# Altium footprint library MODULE_MISC.PcbLib: 36 footprints (part 3 of 3)
Each footprint in its own frame and in the unit in brackets; x right, y up, seen from the top. Pads: shape width x height; smd on the part's side, far side on the other; paste and mask are expansions set on the pad; w line width, h text height; cw(c..) or ccw(c..) is an arc to the next point about the centre after c.
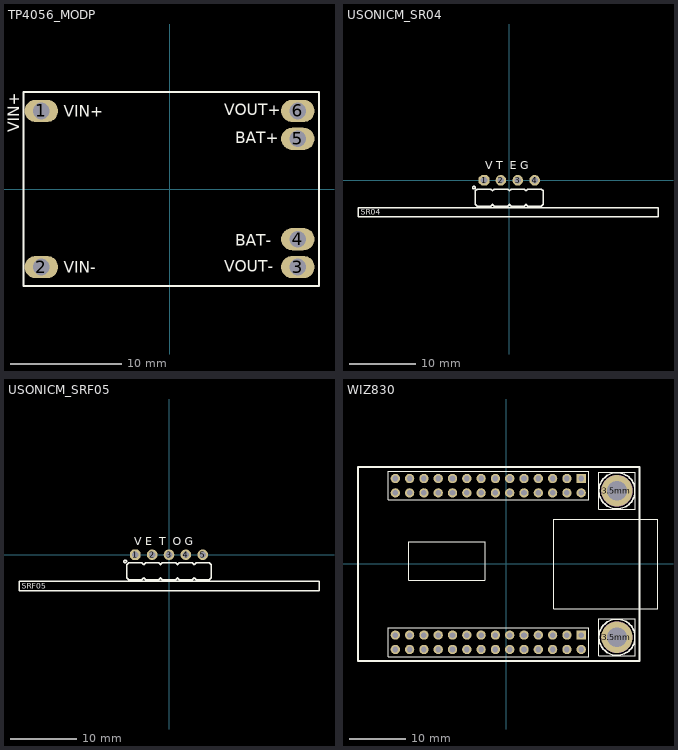
[diagram p2: the footprints below, top view; thin cyan lines are the x and y axes]

## TP4056_MODP [mm] "TP4056 MODULE+"
pads (6):
  oval 3x2 hole 1.5: 1(-11.5,7) 2(-11.5,-7) 3(11.5,-7) 4(11.5,-4.5) 5(11.5,4.5) 6(11.5,7)
Top Overlay:
  lines w0.2: -13.1,-8.7 -13.1,8.7 13.4,8.7 13.4,-8.7 -13.1,-8.7
  text "VIN+" at -13.5,5.1 h1
  text "VOUT-" at 4.9,-7.4 h1
  text "VOUT+" at 4.9,6.6 h1
  text "BAT-" at 5.9,-5.1 h1
  text "BAT+" at 5.9,4.1 h1
  text "VIN+" at -9.5,6.5 h1
  text "VIN-" at -9.5,-7.5 h1
3D body "TP4056.STEP": height 5.95, standoff 0.29, extent -13.246,-8.6 13.246,8.545

## USONICM_SR04 [mm] "Ultrasonic sensor Module, HC-SR04"
pads (4):
  oct 1.6x1.6 / inner oct 1.6x1.6 / far side oct 1.6x2.2 hole 1 mask+0.1: 1(-3.81,0)
  round 1.6 / inner round 1.6 / far side oval 1.6x2.2 hole 1 mask+0.1: 2(-1.27,0) 3(1.27,0) 4(3.81,0)
Top Overlay:
  circle w0.2: c-5.33,-1.1 r0.2
  lines w0.2: -2.57,-3.6 -2.27,-3.9 -0.27,-3.9 0.03,-3.6 ; -2.57,-1.6 -2.27,-1.3 -0.27,-1.3 0.03,-1.6 ; -2.51,-3.6 -2.81,-3.9 -4.81,-3.9 -5.11,-3.6 -5.11,-1.6 -4.81,-1.3 -2.81,-1.3 -2.51,-1.6 ; -0.03,-3.6 0.27,-3.9 2.27,-3.9 2.57,-3.6 ; -0.03,-1.6 0.27,-1.3 2.27,-1.3 2.57,-1.6 ; 2.51,-3.6 2.81,-3.9 4.81,-3.9 ; 2.51,-1.6 2.81,-1.3 4.81,-1.3 ; 4.81,-3.9 5.11,-3.6 ; 4.81,-3.9 5.11,-3.6 ; 4.81,-1.3 5.11,-1.6 ; 4.81,-1.3 5.11,-1.6 ; 5.11,-3.6 5.11,-1.6 ; -22.8,-5.5 22.4,-5.5 22.4,-4.1 -22.8,-4.1 -22.8,-5.5
  text "V T  E G" at -3.63,1.7 h1.2
  text "SR04" at -22.4,-5.2 h0.8
3D body "HC-SR04_User Library.STEP": height 20.6, standoff -4.58, extent -22.7,-17.8 22.3,0.268

## USONICM_SRF05 [mm] "Ultrasonic sensor Module, SRF05"
pads (5):
  oct 1.6x1.6 / inner oct 1.6x1.6 / far side oct 1.6x2.2 hole 1 mask+0.1: 1(-5.08,0)
  round 1.6 / inner round 1.6 / far side oval 1.6x2.2 hole 1 mask+0.1: 2(-2.54,0) 3(0,0) 4(2.54,0) 5(5.08,0)
Top Overlay:
  circle w0.2: c-6.6,-1 r0.2
  lines w0.2: -3.84,-3.5 -3.54,-3.8 -1.54,-3.8 -1.24,-3.5 ; -3.84,-1.5 -3.54,-1.2 -1.54,-1.2 -1.24,-1.5 ; -3.78,-3.5 -4.08,-3.8 -6.08,-3.8 -6.38,-3.5 -6.38,-1.5 -6.08,-1.2 -4.08,-1.2 -3.78,-1.5 ; -1.3,-3.5 -1,-3.8 1,-3.8 1.3,-3.5 ; -1.3,-1.5 -1,-1.2 1,-1.2 1.3,-1.5 ; 1.24,-3.5 1.54,-3.8 3.54,-3.8 3.84,-3.5 ; 1.24,-1.5 1.54,-1.2 3.54,-1.2 3.84,-1.5 ; 3.78,-3.5 4.08,-3.8 6.08,-3.8 6.38,-3.5 6.38,-1.5 6.08,-1.2 4.08,-1.2 3.78,-1.5 ; -22.6,-5.4 22.6,-5.4 22.6,-4 -22.6,-4 -22.6,-5.4
  text "SRF05" at -22.2,-5.1 h0.8
  text "V E  T  O G" at -5.2,1.4 h1.2
3D body "HY-SRF05_v3.stp": height 20.3, standoff -6.3, extent -22.5,-17.7 22.5,0.327

## WIZ830 [mil]
pads (58):
  round 220.47 hole 137.8: 3.5mm(775,-512.3) 3.5mm(775,512.1)
  rect 65x65 hole 39.37: J1-1(525,597.7) J2-1(525,-497.3)
  round 65 hole 39.37: J1-2(525,497.3) J1-3(425,597.7) J1-4(425,497.3) J1-5(325,597.7) J1-6(325,497.3) J1-7(225,597.7) J1-8(225,497.3) J1-9(125,597.7) J1-10(125,497.3) J1-11(25,597.7) J1-12(25,497.3) J1-13(-75,597.7) J1-14(-75,497.3) J1-15(-175,597.7) J1-16(-175,497.3) J1-17(-275,597.7) J1-18(-275,497.3) J1-19(-375,597.7) J1-20(-375,497.3) J1-21(-475,597.7) J1-22(-475,497.3) J1-23(-575,597.7) J1-24(-575,497.3) J1-25(-675,597.7) J1-26(-675,497.3) J1-27(-775,597.7) J1-28(-775,497.3) J2-2(525,-597.7) J2-3(425,-497.3) J2-4(425,-597.7) J2-5(325,-497.3) J2-6(325,-597.7) J2-7(225,-497.3) J2-8(225,-597.7) J2-9(125,-497.3) J2-10(125,-597.7) J2-11(25,-497.3) J2-12(25,-597.7) J2-13(-75,-497.3) J2-14(-75,-597.7) J2-15(-175,-497.3) J2-16(-175,-597.7) J2-17(-275,-497.3) J2-18(-275,-597.7) J2-19(-375,-497.3) J2-20(-375,-597.7) J2-21(-475,-497.3) J2-22(-475,-597.7) J2-23(-575,-497.3) J2-24(-575,-597.7) J2-25(-675,-497.3) J2-26(-675,-597.7) J2-27(-775,-497.3) J2-28(-775,-597.7)
Top Overlay:
  circle w10: c775,-512.3 r125.98
  circle w5: c774.52,-512.27 r59.06
  circle w5: c774.52,511.35 r59.06
  circle w10: c775,512.1 r125.98
  lines w5: -682.17,-113.57 -682.17,157.02 -150.68,157.02 -150.68,-113.57 -682.17,-113.57 ; 333.57,-313.45 1061.92,-313.45 1061.92,312.54 333.57,312.54 333.57,-313.45
  lines w7.87: -823.4,-647.3 576.6,-647.3 576.6,-447.3 -823.4,-447.3 -823.4,-647.3 ; -823.4,447.7 -823.4,647.7 576.6,647.7 576.6,447.7 -823.4,447.7 ; 647,-640.3 647,-384.3 903,-384.3 903,-640.3 647,-640.3 ; 647,384.1 903,384.1 903,640.1 647,640.1 647,384.1
  lines w11.81: -1036,-679.04 -1036,678.84 932,678.84 932,-679.04 -1036,-679.04
Keep-Out Layer:
  circle w39.37: c775,512.1 r78.74
Mechanical 7:
  circle w3.94: c775,512.18 r106.3
  circle w47.24: c775,512.1 r86.61
  circle w3.94: c775,-512.38 r106.3
  region: 755.28,575.09 711.97,575.09 711.97,543.59 755.28,543.59
  region: 743.49,531.76 743.49,575.07 712,575.07 712,531.76
  region: 733.03,565.85 721.22,554.04 743.49,531.76 755.3,543.58
  region: 837.98,531.76 837.98,575.07 806.48,575.07 806.48,531.76
  rectangle: 794.67,543.57 837.98,575.06
  region: 828.73,554.05 816.92,565.86 794.65,543.59 806.46,531.78
  rectangle: 794.67,449.09 837.98,480.58
  region: 816.9,458.3 828.71,470.11 806.44,492.38 794.63,480.57
  region: 712,492.39 712,449.09 743.49,449.09 743.49,492.39
  region: 755.3,480.58 712,480.58 712,449.09 755.3,449.09
  region: 721.22,470.14 733.03,458.33 755.3,480.6 743.49,492.41
  region: 743.47,-492.63 755.29,-480.82 733.01,-458.55 721.2,-470.36
  region: 755.31,-449.31 712,-449.31 712,-480.81 755.31,-480.81
  region: 743.49,-492.61 743.49,-449.31 712,-449.31 712,-492.61
  region: 794.65,-480.8 806.46,-492.61 828.73,-470.34 816.92,-458.53
  rectangle: 794.67,-480.82 837.98,-449.32
  region: 806.48,-531.99 794.67,-543.8 816.94,-566.07 828.75,-554.26
  rectangle: 794.67,-575.29 837.98,-543.8
  region: 806.48,-531.99 806.48,-575.3 837.98,-575.3 837.98,-531.99
  region: 755.31,-543.8 743.5,-531.99 721.23,-554.26 733.04,-566.07
  region: 712,-531.98 712,-575.29 743.49,-575.29 743.49,-531.98
  region: 755.3,-543.79 712,-543.79 712,-575.29 755.3,-575.29